# Altium schematic symbol library TC2030-CTL-NL.SchLib: 1 symbol
Pins are listed as number, name and electrical type; pins without a type are passive.

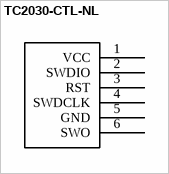
[diagram p0: symbol TC2030-CTL-NL]

## TC2030-CTL-NL
designator ?  (no BOM)
Tag Connect Pads - No latching Clips - ARM
pins: 1 VCC, 2 SWDIO, 3 RST, 4 SWDCLK, 5 GND, 6 SWO